# Altium footprint library 2.2uH.PcbLib: 1 footprints
Each footprint in its own frame and in the unit in brackets; x right, y up, seen from the top. Pads: shape width x height; smd on the part's side, far side on the other; paste and mask are expansions set on the pad; w line width, h text height; cw(c..) or ccw(c..) is an arc to the next point about the centre after c.
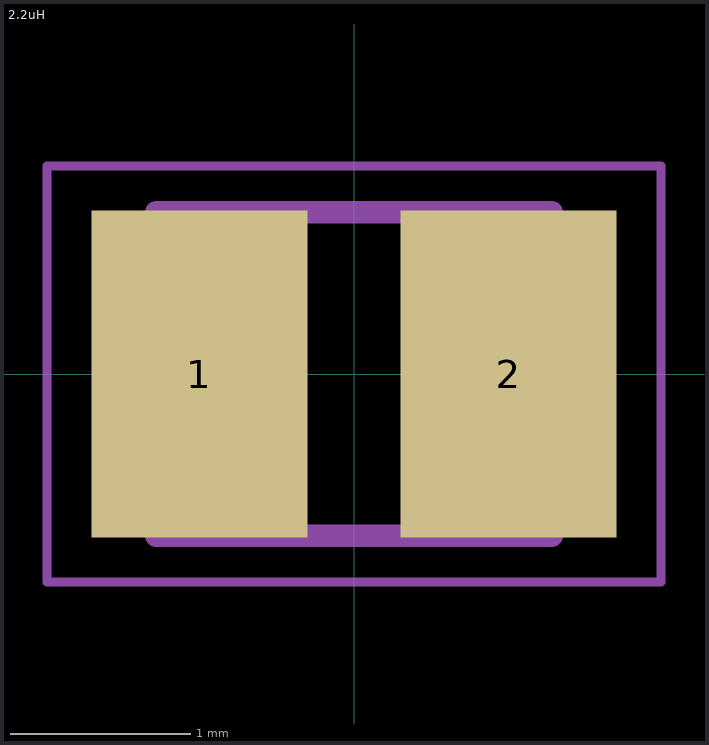
[diagram p0: the footprint, top view; thin cyan lines are the x and y axes]

## 2.2uH [mm]
pads (2):
  rect 1.2x1.82 smd: 1(-0.86,0) 2(0.86,0)
Mechanical 13:
  lines w0.127: -1.1,-0.9 -1.1,0.9 1.1,0.9 1.1,-0.9 -1.1,-0.9
Mechanical 15:
  lines w0.05: -1.708,-1.158 -1.708,1.158 1.708,1.158 1.708,-1.158 -1.708,-1.158
3D body "step_temp.STEP": height 1, standoff 0, extent -1,-0.8 1,0.8